# EAGLE library part SWITCH-DPDT (library audioint)
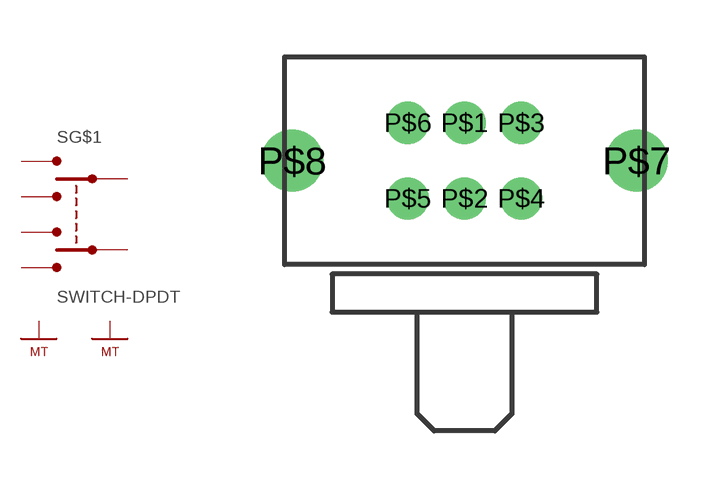
[diagram p15: symbol with the pads of SLIDE-SWITCH-SSAC120100; footprint SLIDE-SWITCH-SSAC120100]

Designator prefix S; gates G$1=SWITCH-DPDT G$2=MECHANICAL G$3=MECHANICAL

## SWITCH-DPDT  [SLIDE-SWITCH-SSAC120100]
P$1  G$1:P$5
P$2  G$1:P$6
P$3  G$1:P$2
P$4  G$1:P$4
P$5  G$1:P$3
P$6  G$1:P$1
P$7  G$2:MT  pas
P$8  G$3:MT  pas

## Footprint SLIDE-SWITCH-SSAC120100 (pad centres in mm)
drill 0.61 round: P$1 0,1; P$2 0,-1; P$3 1.5,1; P$4 1.5,-1; P$5 -1.5,-1; P$6 -1.5,1
drill 1.092 round: P$7 4.55,0; P$8 -4.55,0